# Altium schematic symbol library Schlib_Inchange_Semiconductor.SchLib: 3 symbols
Pins are listed as number, name and electrical type; pins without a type are passive.

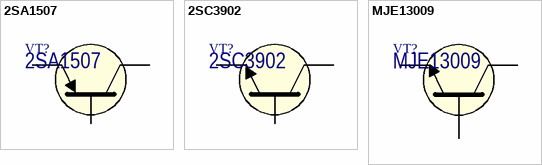
[diagram p0: symbols 2SA1507 to MJE13009]

## 2SA1507
designator VT?
General Purpose p-n-p Transistors -160V, -1.5A; Manufacturer: Inchange Semiconductor; Package: TO-126; Part Number: 2SA1507
footprint TO-126 (VERTICAL)
footprint TO-126 (HORIZONTAL)
footprint TO-126 (HORIZONTAL, HOLE MOUNTING)
pins: 1 B, 2 C, 3 E

## 2SC3902
designator VT?
General Purpose n-p-n Transistors 160V, 1.5A; Manufacturer: Inchange Semiconductor; Package: TO-126; Part Number: 2SC3902
footprint TO-126 (VERTICAL)
footprint TO-126 (HORIZONTAL)
footprint TO-126 (HORIZONTAL, HOLE MOUNTING)
pins: 1 B, 2 C, 3 E

## MJE13009
designator VT?
General Purpose n-p-n Transistors 400V, 12A, 100W; Manufacturer: Inchange Semiconductor; Package: TO-220A; Part Number: MJE13009
footprint TO-220A-3
footprint TO-220A-3 (HORIZONTAL)
footprint TO-220_with_TO-247 (VERTICAL)SLOT
footprint TO-3PN (VERTICAL)
footprint TO-3PN (HORIZONTAL, TOP)
footprint TO-3PN (HORIZONTAL, BOTTOM)
pins: 1 B, 2 C, 3 E